# Altium schematic symbol library de1_soc_connector.SchLib: 1 symbol
Pins are listed as number, name and electrical type; pins without a type are passive.

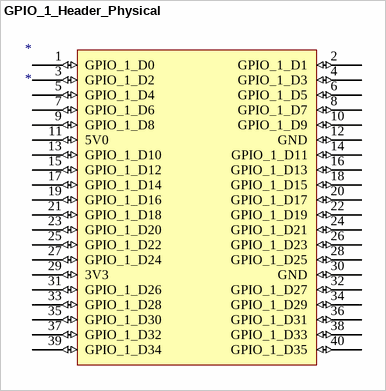
[diagram p0: symbol GPIO_1_Header_Physical]

## GPIO_1_Header_Physical
designator *
pins: 1 GPIO_1_D0 (io), 2 GPIO_1_D1 (io), 3 GPIO_1_D2 (io), 4 GPIO_1_D3 (io), 5 GPIO_1_D4 (io), 6 GPIO_1_D5 (io), 7 GPIO_1_D6 (io), 8 GPIO_1_D7 (io), 9 GPIO_1_D8 (io), 10 GPIO_1_D9 (io), 11 5V0 (io), 12 GND (io), 13 GPIO_1_D10 (io), 14 GPIO_1_D11 (io), 15 GPIO_1_D12 (io), 16 GPIO_1_D13 (io), 17 GPIO_1_D14 (io), 18 GPIO_1_D15 (io), 19 GPIO_1_D16 (io), 20 GPIO_1_D17 (io), 21 GPIO_1_D18 (io), 22 GPIO_1_D19 (io), 23 GPIO_1_D20 (io), 24 GPIO_1_D21 (io), 25 GPIO_1_D22 (io), 26 GPIO_1_D23 (io), 27 GPIO_1_D24 (io), 28 GPIO_1_D25 (io), 29 3V3 (io), 30 GND (io), 31 GPIO_1_D26 (io), 32 GPIO_1_D27 (io), 33 GPIO_1_D28 (io), 34 GPIO_1_D29 (io), 35 GPIO_1_D30 (io), 36 GPIO_1_D31 (io), 37 GPIO_1_D32 (io), 38 GPIO_1_D33 (io), 39 GPIO_1_D34 (io), 40 GPIO_1_D35 (io)